# Altium footprint library HANDS-FREEE-PcbLib-V1.10.PcbLib: 197 footprints (part 3 of 13)
Each footprint in its own frame and in the unit in brackets; x right, y up, seen from the top. Pads: shape width x height; smd on the part's side, far side on the other; paste and mask are expansions set on the pad; w line width, h text height; cw(c..) or ccw(c..) is an arc to the next point about the centre after c.
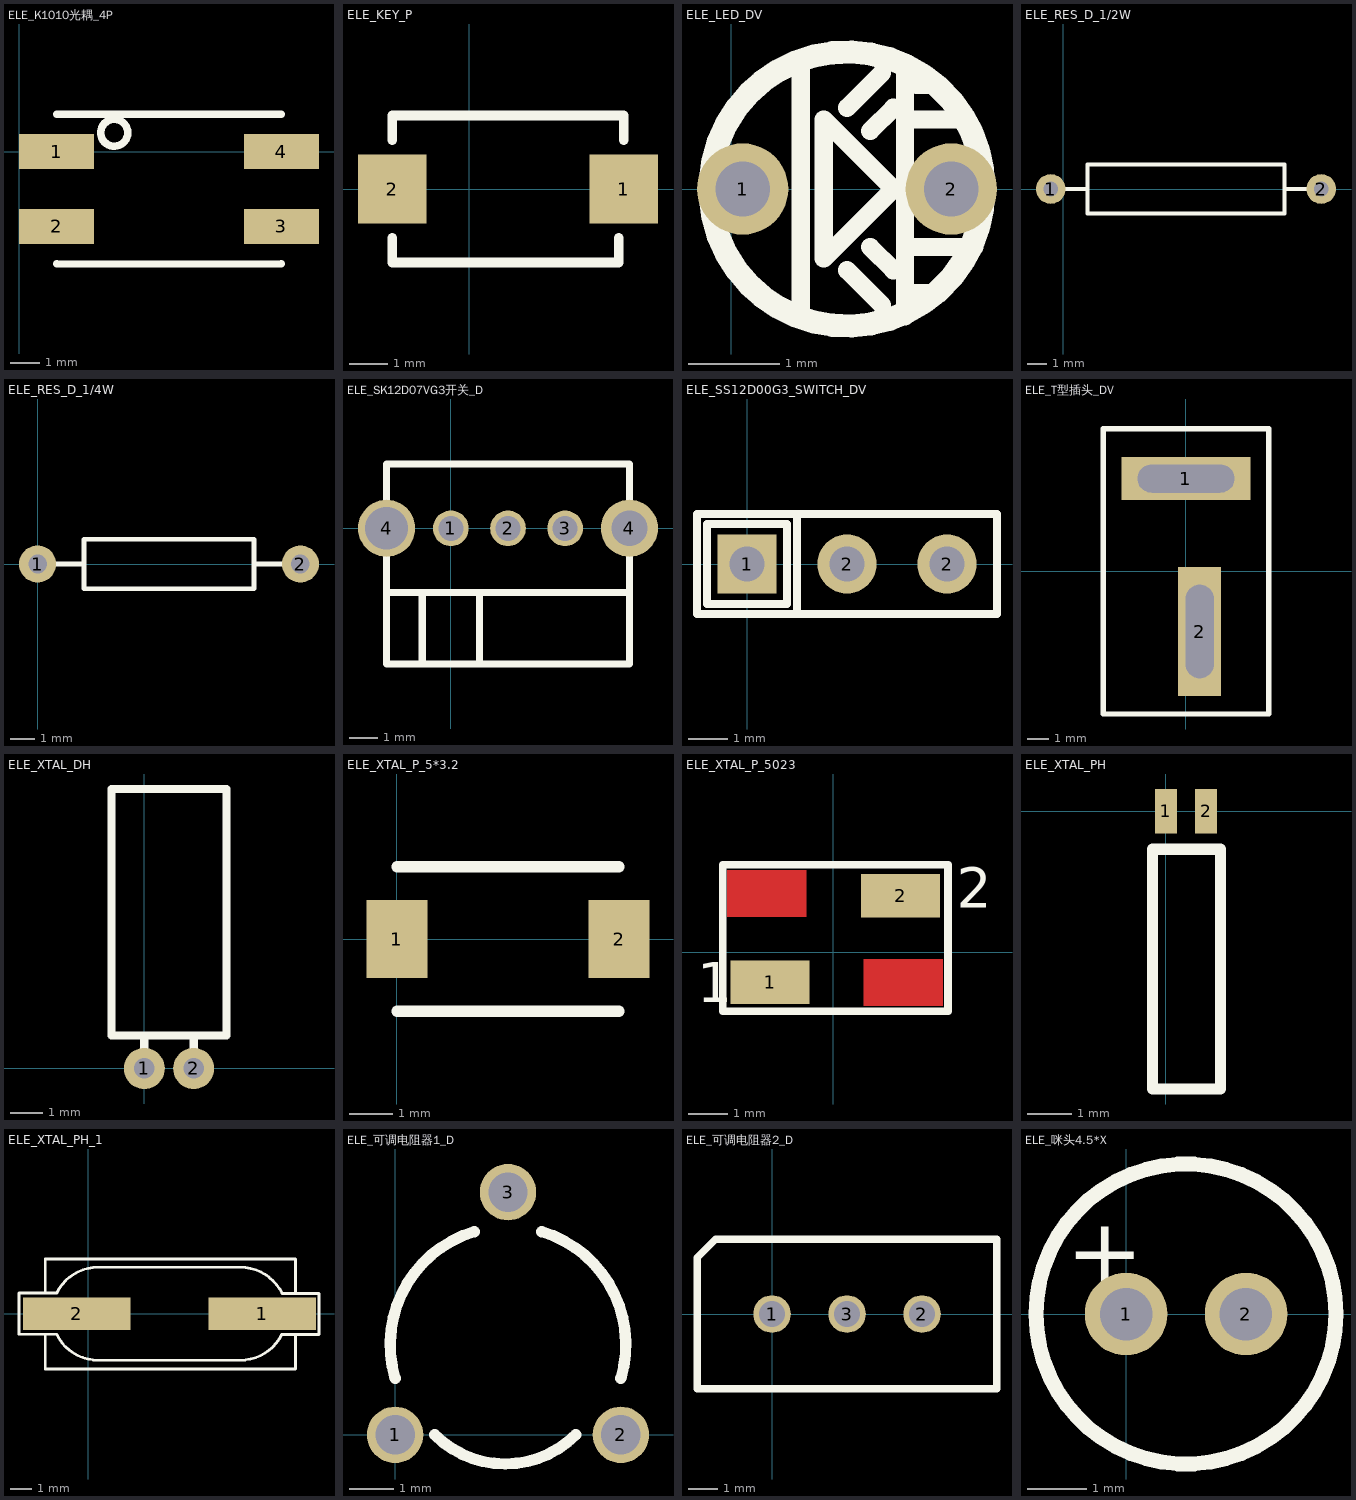
[diagram p2: the footprints below, top view; thin cyan lines are the x and y axes]

## ELE_K1010光耦_4P [mm]
pads (4):
  rect 2.54x1.2 smd: 1(1.27,0) 2(1.27,-2.54) 3(8.89,-2.54) 4(8.89,0)
Top Overlay:
  circle w0.254: c3.225,0.635 r0.458
  lines w0.254: 1.27,-3.81 8.89,-3.81 ; 1.27,1.27 8.89,1.27

## ELE_KEY_P [mil]
pads (2):
  rect 70x70 smd: 1(157.48,0) 2(-78.74,0)
Top Overlay:
  lines w10: -78.74,-50 -78.74,-75 152.48,-75 152.48,-50 ; -78.74,50 -78.74,75 157.48,75 157.48,50

## ELE_LED_DV [mm] "Connector; Header; 2 Position"
pads (2):
  round 1 hole 0.6: 1(0.127,0) 2(2.413,0)
Top Overlay:
  circle w0.254: c1.27,0 r1.5
  lines w0.2: 0.762,-1.397 0.762,1.397 ; 1.27,-0.889 1.651,-1.27 ; 1.27,0.889 1.651,1.27 ; 1.524,-0.635 1.778,-0.889 ; 1.524,0.635 1.778,0.889 ; 1.905,-1.397 1.905,1.27 ; 1.905,-1.143 2.286,-1.143 ; 1.905,-0.635 2.667,-0.635 ; 1.905,0.762 2.54,0.762 ; 2.032,1.143 2.159,1.143 ; 1.016,-0.762 1.778,0 1.016,0.762 1.016,-0.762

## ELE_RES_D_1/2W [mil]
height 236.22
pads (2):
  round 60 hole 30: 1(-25,0) 2(525,0)
Top Overlay:
  lines w7.87: -25,0 50,0 ; 450,0 525,0 ; 50,-50 50,50 450,50 450,-50 50,-50

## ELE_RES_D_1/4W [mil]
height 157.48
pads (2):
  round 60 hole 30: 1(0,0) 2(425,0)
Top Overlay:
  lines w7.87: 0,0 75,0 75,40 ; 350,0 425,0 ; 75,40 350,40 350,-40 75,-40 75,40

## ELE_SK12D07VG3开关_D [mil]
pads (5):
  round 50 hole 35: 1(0,0) 2(80,0) 3(160,0)
  round 80 hole 60: 4(-90,0)
  round 80 hole 50: 4(250,0)
Top Overlay:
  lines w10: -40,-90 -40,-190 ; 40,-90 40,-190 ; -90,-90 -90,0 -90,90 250,90 250,0 250,-90 ; -90,-90 250,-90 ; -90,-90 -90,-190 -40,-190 ; -40,-190 40,-190 ; 40,-190 250,-190 250,-90

## ELE_SS12D00G3_SWITCH_DV [mm] "Connector; Header; 3 Position; Right Angle"
pads (3):
  rect 1.5x1.5 hole 0.9: 1(0,0)
  round 1.5 hole 0.9: 2(2.54,0) 2(5.08,0)
Top Overlay:
  lines w0.2: 1.27,-1.27 1.27,1.27 ; -1.27,-1.27 6.35,-1.27 6.35,1.27 -1.27,1.27 -1.27,-1.27 ; -1.016,-1.016 -1.016,1.016 1.016,1.016 1.016,-1.016 -1.016,-1.016

## ELE_T型插头_DV [mm]
height 1.1
pads (2):
  rect 6x2 hole 1.3 slot 4.5 at 0 deg: 1(0,4.318)
  rect 2x6 hole 1.3 slot 4.35 at 90 deg: 2(0.635,-2.794)
Top Overlay:
  lines w0.254: -3.85,-6.625 3.85,-6.625 3.85,6.625 -3.85,6.625 -3.85,-6.625

## ELE_XTAL_DH [mil] "32767"
height 196.85
pads (2):
  round 50 hole 25: 1(0,0) 2(60,0)
Top Overlay:
  lines w10: 0,20 0,40 ; 60,20 60,40 ; -40,40 100,40 100,340 -40,340 -40,40

## ELE_XTAL_P_5*3.2 [mil]
pads (2):
  rect 55x70 smd: 1(0,0) 2(200,0)
Top Overlay:
  lines w10: 0,-65 200,-65 ; 0,65 200,65

## ELE_XTAL_P_5023 [mil]
pads (2):
  rect 78.74x43.31 smd: 1(-63,-30) 2(67,56)
Top Layer:
  rectangle: -106,35 -27,82
  rectangle: 30,-54 109,-7
Top Overlay:
  lines w7.87: -110.35,-59 -110.35,-28.4 -110.35,34.59 -110.35,87 114.06,87 114.06,-59 -110.35,-59
  text "1" at -136,-50 h40
  text "2" at 123,44 h40
Top Solder:
  rectangle: -106,35 -27,82
  rectangle: 30,-54 109,-7

## ELE_XTAL_PH [mil]
pads (2):
  rect 20x40 smd: 1(0,0) 2(36,0)
Top Overlay:
  lines w10: -12,-249 49,-249 49,-34 -12,-34 -12,-249

## ELE_XTAL_PH_1 [mm]
height 1.6
pads (2):
  rect 5x1.5 smd: 1(8.077,0) 2(-0.533,0)
Top Overlay:
  lines w0.127: -2.007,-0.955 -2.007,-2.565 9.627,-2.565 9.627,-0.966 ; -2.007,0.966 -2.007,2.54 9.627,2.54 9.627,0.945 ; -3.226,-0.955 -2.667,-0.955 -2.564,-0.955 -1.479,-0.955 ccw(c0.457,0) 0.457,-2.159 7.061,-2.159 ccw(c7.061,0) 8.992,-0.966 10.185,-0.966 10.719,-0.966 10.719,0.945 10.185,0.945 9.002,0.945 ccw(c7.061,0) 7.061,2.159 0.457,2.159 ccw(c0.457,0) -1.474,0.966 -2.564,0.966 -2.667,0.966 -3.226,0.966 -3.226,-0.955

## ELE_可调电阻器1_D [mil]
pads (3):
  round 50 hole 35: 1(0,0) 2(200,0) 3(100,215)
Top Overlay:
  lines w10: 0,50 cw(c100,80) 70,180 ; 35,0 ccw(c97.5,62.5) 160,0 ; 130,180 cw(c100,80) 200,50

## ELE_可调电阻器2_D [mil]
pads (3):
  round 50 hole 35: 1(0,0) 2(200,0) 3(100,0)
Top Overlay:
  lines w10: -100,-100 0,-100 200,-100 300,-100 300,0 300,100 200,100 0,100 -75,100 -100,75 -100,0 -100,-100

## ELE_咪头4.5*X [mil]
pads (2):
  round 55 hole 35: 1(0,0) 2(80,0)
Top Overlay:
  circle w10: c40,0 r100
  text "+" at -40,20 h45